# EAGLE library part AD7416 (library mike)
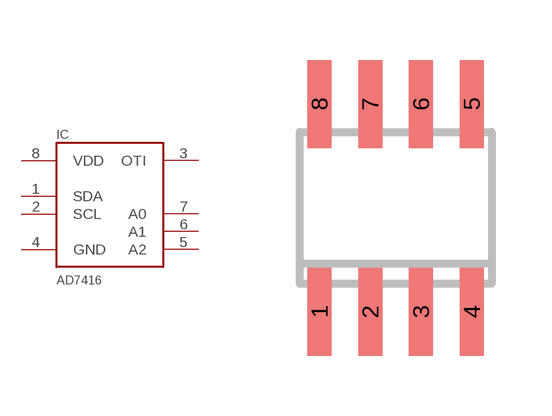
[diagram p5: symbol with the pads of SOIC8; footprint SOIC8]

Designator prefix IC

## AD7416  [SOIC8]
1  SDA  pas
2  SCL  pas
3  OTI  pas
4  GND  pas
5  A2  pas
6  A1  pas
7  A0  pas
8  VDD  pas

## Footprint SOIC8 (pad centres in mm)
Small Outline IC
smd 0.6 x 2.2: 1 -1.905,-2.6; 2 -0.635,-2.6; 3 0.635,-2.6; 4 1.905,-2.6; 5 1.905,2.6; 6 0.635,2.6; 7 -0.635,2.6; 8 -1.905,2.6